# Altium footprint library LM340AT-5.0_NOPB.PcbLib: 1 footprints
Each footprint in its own frame and in the unit in brackets; x right, y up, seen from the top. Pads: shape width x height; smd on the part's side, far side on the other; paste and mask are expansions set on the pad; w line width, h text height; cw(c..) or ccw(c..) is an arc to the next point about the centre after c.
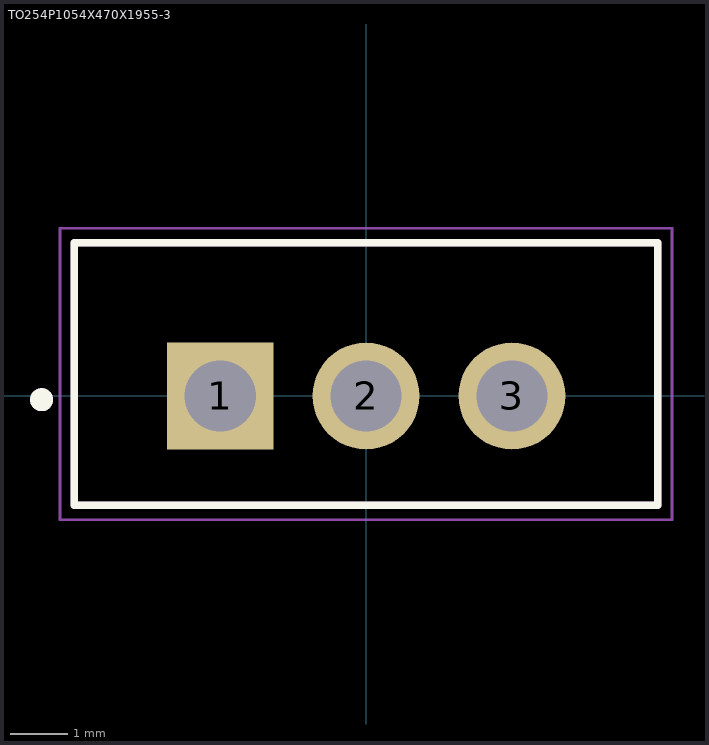
[diagram p0: the footprint, top view; thin cyan lines are the x and y axes]

## TO254P1054X470X1955-3 [mm]
pads (3):
  rect 1.86x1.86 hole 1.24: 1(-2.54,0)
  round 1.86 hole 1.24: 2(0,0) 3(2.54,0)
Top Overlay:
  circle w0.2: c-5.65,-0.065 r0.1
  lines w0.127: -5.08,-1.905 -5.08,2.67 5.08,2.67 5.08,-1.905 -5.08,-1.905
Mechanical 13:
  circle w0.2: c-5.65,-0.065 r0.1
  lines w0.127: -5.08,-1.905 -5.08,2.67 5.08,2.67 5.08,-1.905 -5.08,-1.905
Mechanical 15:
  lines w0.05: -5.33,-2.155 -5.33,2.92 5.33,2.92 5.33,-2.155 -5.33,-2.155
3D body "step_temp.STEP": height 22.86, standoff -8.38, extent -5.08,-1.485 5.08,2.71